# EAGLE library part CD40109BPW (library TREC_Library)
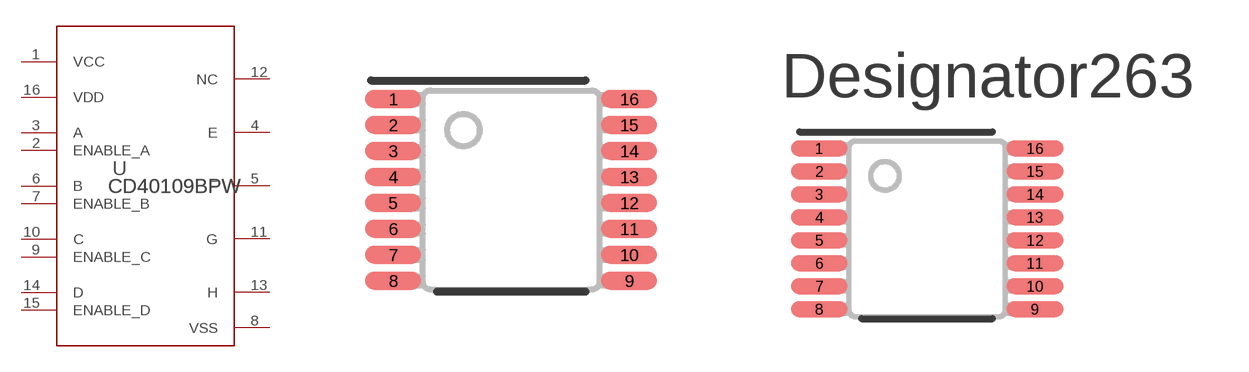
[diagram p2: symbol with the pads of PW0016A_N; footprints PW0016A_N, PW0016A_M]

Designator prefix U

## CD40109BPW (COPYRIGHT: Copyright (C) 2022 Ultra Librarian. All rights reserved.; MANUFACTURER_PART_NUMBER: CD40109BPW; MFR_NAME: Texas Instruments; REFDES: RefDes; TYPE: TYPE)  [PW0016A_N]
1  VCC  pwr
2  ENABLE_A  in
3  A  in
4  E  out
5  F  out
6  B  in
7  ENABLE_B  in
8  VSS  pwr
9  ENABLE_C  in
10  C  in
11  G  out
12  NC  pas
13  H  out
14  D  in
15  ENABLE_D  in
16  VDD  pwr

## CD40109BPWPW0016A_M (COPYRIGHT: Copyright (C) 2022 Ultra Librarian. All rights reserved.; MANUFACTURER_PART_NUMBER: CD40109BPW; MFR_NAME: Texas Instruments; REFDES: RefDes; TYPE: TYPE)  [PW0016A_M]
Pads as for PW0016A_N

## CD40109BPWPW0016A_L (COPYRIGHT: Copyright (C) 2022 Ultra Librarian. All rights reserved.; MANUFACTURER_PART_NUMBER: CD40109BPW; MFR_NAME: Texas Instruments; REFDES: RefDes; TYPE: TYPE)  [PW0016A_L]
Pads as for PW0016A_N

## Footprint PW0016A_N (pad centres in mm)
smd 1.4 x 0.45: 1 -2.95,2.275; 2 -2.95,1.625; 3 -2.95,0.975; 4 -2.95,0.325; 5 -2.95,-0.325; 6 -2.95,-0.975; 7 -2.95,-1.625; 8 -2.95,-2.275; 9 2.95,-2.275; 10 2.95,-1.625; 11 2.95,-0.975; 12 2.95,-0.325; 13 2.95,0.325; 14 2.95,0.975; 15 2.95,1.625; 16 2.95,2.275

## Footprint PW0016A_M (pad centres in mm)
smd 1.6 x 0.45: 1 -3.05,2.275; 2 -3.05,1.625; 3 -3.05,0.975; 4 -3.05,0.325; 5 -3.05,-0.325; 6 -3.05,-0.975; 7 -3.05,-1.625; 8 -3.05,-2.275; 9 3.05,-2.275; 10 3.05,-1.625; 11 3.05,-0.975; 12 3.05,-0.325; 13 3.05,0.325; 14 3.05,0.975; 15 3.05,1.625; 16 3.05,2.275

## Footprint PW0016A_L (pad centres in mm)
smd 1.2 x 0.4: 1 -2.85,2.275; 2 -2.85,1.625; 3 -2.85,0.975; 4 -2.85,0.325; 5 -2.85,-0.325; 6 -2.85,-0.975; 7 -2.85,-1.625; 8 -2.85,-2.275; 9 2.85,-2.275; 10 2.85,-1.625; 11 2.85,-0.975; 12 2.85,-0.325; 13 2.85,0.325; 14 2.85,0.975; 15 2.85,1.625; 16 2.85,2.275